# EAGLE library part TDA1015T (library Audio-Power-amlifier V.2.0)
The TDA1010A is a monolithic integrated class-B audio amplifier circuit in a 9-lead single in-line (SIL) plastic package. The device is primarily developed as a 6 W car radio amplifier for use with 4 Wand 2 Wload impedances. The wide supply voltage range and the flexibility of the IC make it an attractive proposition for record players and tape recorders with output powers up to 10 W.
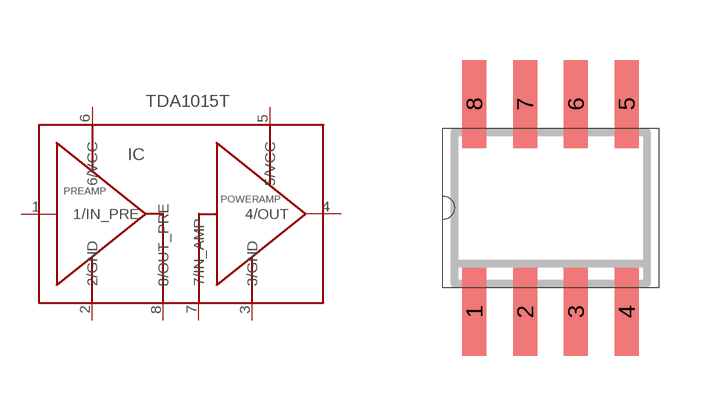
[diagram p113: symbol with the pads of SOT96-1; footprint SOT96-1]

Designator prefix IC

## TDA1015T  [SOT96-1]
1  1/IN_PRE  in
2  2/GND  pwr
3  3/GND  pwr
4  4/OUT  out
5  5/VCC  pwr
6  6/VCC  pwr
7  7/IN_AMP  in
8  8/OUT_PRE  out

## Footprint SOT96-1 (pad centres in mm)
Small Outline Narrow Plastic Gull Wing 150-mil body, package type SN
smd 0.6 x 2.2: 1 -1.905,-2.6; 2 -0.635,-2.6; 3 0.635,-2.6; 4 1.905,-2.6; 5 1.905,2.6; 6 0.635,2.6; 7 -0.635,2.6; 8 -1.905,2.6